# Altium schematic symbol library MF-SM150_33-2.SchLib: 1 symbol
Pins are listed as number, name and electrical type; pins without a type are passive.

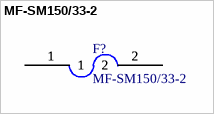
[diagram p0: symbol MF-SM150/33-2]

## MF-SM150/33-2
designator F?
PTC RESET FUSE 33V 1.5A 2SMD
footprint MF-SM150/33-2
pins: 1, 1, 2, 2